# Altium schematic symbol library WR-WTB.SchLib: 242 symbols (part 1 of 5)
Pins are listed as number, name and electrical type; pins without a type are passive.

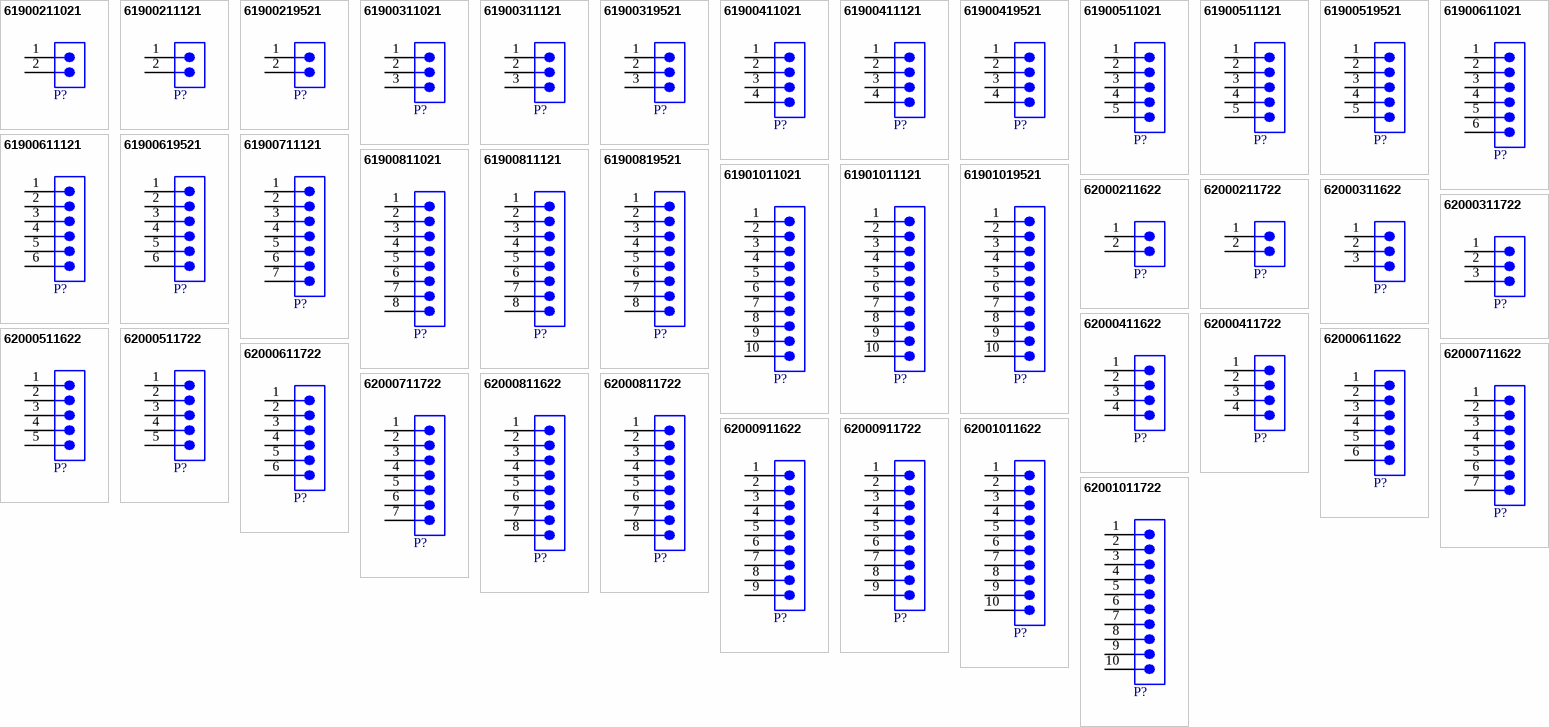
[diagram p0: symbols 61900211021 to 62001011722]

## 61900211021
designator P?  (value not drawn)
WR-WTB THT Male Left Angled Bottom Locking Header, pitch 2.54mm, 2pins; Manufacturer: Wurth Elektronik; Contact Resistance: 20mΩ; Rated Current: 3A; Working Voltage: 250VAC; Withstanding Voltage: 1000VAC; ComponentLink1Description: Website Link; ComponentLink1URL: https://www.we-online.com/redexpert/article/61900211021?ad; ComponentLink2Description: Datasheet Link; ComponentLink2URL: https://www.we-online.com/redexpert/spec/61900211021?ad; Manufacturer Part Number: 61900211021; Category: Wire-to-Board Connectors; Match Code: WR-WTB; Mount: Through Hole; Operating Temperature Max: 105°C; Operating Temperature Min: -40°C; Packaging: Bag; Length: 5.08mm; Width: 12.47mm; Height: 5.8mm; Gender: Male; Number of Pins: 2; Number of Rows: 1; Orientation: Right Angled Bottom Locking; Pitch: 2.54mm
footprint 61900211021
pins: 1, 2

## 61900211121
designator P?  (value not drawn)
WR-WTB THT Male Vertical Locking Header, pitch 2.54mm, 2pins; Manufacturer: Wurth Elektronik; Contact Resistance: 20mΩ; Rated Current: 3A; Working Voltage: 250VAC; Withstanding Voltage: 1000VAC; ComponentLink1Description: Website Link; ComponentLink1URL: https://www.we-online.com/redexpert/article/61900211121?ad; ComponentLink2Description: Datasheet Link; ComponentLink2URL: https://www.we-online.com/redexpert/spec/61900211121?ad; Manufacturer Part Number: 61900211121; Category: Wire-to-Board Connectors; Match Code: WR-WTB; Mount: Through Hole; Operating Temperature Max: 105°C; Operating Temperature Min: -40°C; Packaging: Bag; Length: 5.08mm; Width: 5.8mm; Height: 11.5mm; Gender: Male; Number of Pins: 2; Number of Rows: 1; Orientation: Vertical; Pitch: 2.54mm
footprint 61900211121
pins: 1, 2

## 61900219521
designator P?  (value not drawn)
WR-WTB THT Male Right Angled Top Locking Header, pitch 2.54mm, 2pins; Manufacturer: Wurth Elektronik; Contact Resistance: 20mΩ; Rated Current: 3A; Working Voltage: 250VAC; Withstanding Voltage: 1000VAC; ComponentLink1Description: Website Link; ComponentLink1URL: https://www.we-online.com/redexpert/article/61900219521?ad; ComponentLink2Description: Datasheet Link; ComponentLink2URL: https://www.we-online.com/redexpert/spec/61900219521?ad; Manufacturer Part Number: 61900219521; Category: Wire-to-Board Connectors; Match Code: WR-WTB; Mount: Through Hole; Operating Temperature Max: 105°C; Operating Temperature Min: -40°C; Packaging: Bag; Length: 5.08mm; Width: 12.47mm; Height: 5.8mm; Gender: Male; Number of Pins: 2; Number of Rows: 1; Orientation: Right Angled Top Locking; Pitch: 2.54mm
footprint 61900219521
pins: 1, 2

## 61900311021
designator P?  (value not drawn)
WR-WTB THT Male Left Angled Bottom Locking Header, pitch 2.54mm, 3pins; Manufacturer: Wurth Elektronik; Contact Resistance: 20mΩ; Rated Current: 3A; Working Voltage: 250VAC; Withstanding Voltage: 1000VAC; ComponentLink1Description: Website Link; ComponentLink1URL: https://www.we-online.com/redexpert/article/61900311021?ad; ComponentLink2Description: Datasheet Link; ComponentLink2URL: https://www.we-online.com/redexpert/spec/61900311021?ad; Manufacturer Part Number: 61900311021; Category: Wire-to-Board Connectors; Match Code: WR-WTB; Mount: Through Hole; Operating Temperature Max: 105°C; Operating Temperature Min: -40°C; Packaging: Bag; Length: 7.62mm; Width: 12.47mm; Height: 5.8mm; Gender: Male; Number of Pins: 3; Number of Rows: 1; Orientation: Right Angled Bottom Locking; Pitch: 2.54mm
footprint 61900311021
pins: 1, 2, 3

## 61900311121
designator P?  (value not drawn)
WR-WTB THT Male Vertical Locking Header, pitch 2.54mm, 3pins; Manufacturer: Wurth Elektronik; Contact Resistance: 20mΩ; Rated Current: 3A; Working Voltage: 250VAC; Withstanding Voltage: 1000VAC; ComponentLink1Description: Website Link; ComponentLink1URL: https://www.we-online.com/redexpert/article/61900311121?ad; ComponentLink2Description: Datasheet Link; ComponentLink2URL: https://www.we-online.com/redexpert/spec/61900311121?ad; Manufacturer Part Number: 61900311121; Category: Wire-to-Board Connectors; Match Code: WR-WTB; Mount: Through Hole; Operating Temperature Max: 105°C; Operating Temperature Min: -40°C; Packaging: Bag; Length: 7.62mm; Width: 5.8mm; Height: 11.5mm; Gender: Male; Number of Pins: 3; Number of Rows: 1; Orientation: Vertical; Pitch: 2.54mm
footprint 61900311121
pins: 1, 2, 3

## 61900319521
designator P?  (value not drawn)
WR-WTB THT Male Right Angled Top Locking Header, pitch 2.54mm, 3pins; Manufacturer: Wurth Elektronik; Contact Resistance: 20mΩ; Rated Current: 3A; Working Voltage: 250VAC; Withstanding Voltage: 1000VAC; ComponentLink1Description: Website Link; ComponentLink1URL: https://www.we-online.com/redexpert/article/61900319521?ad; ComponentLink2Description: Datasheet Link; ComponentLink2URL: https://www.we-online.com/redexpert/spec/61900319521?ad; Manufacturer Part Number: 61900319521; Category: Wire-to-Board Connectors; Match Code: WR-WTB; Mount: Through Hole; Operating Temperature Max: 105°C; Operating Temperature Min: -40°C; Packaging: Bag; Length: 7.62mm; Width: 12.47mm; Height: 5.8mm; Gender: Male; Number of Pins: 3; Number of Rows: 1; Orientation: Right Angled Top Locking; Pitch: 2.54mm
footprint 61900319521
pins: 1, 2, 3

## 61900411021
designator P?  (value not drawn)
WR-WTB THT Male Left Angled Bottom Locking Header, pitch 2.54mm, 4pins; Manufacturer: Wurth Elektronik; Contact Resistance: 20mΩ; Rated Current: 3A; Working Voltage: 250VAC; Withstanding Voltage: 1000VAC; ComponentLink1Description: Website Link; ComponentLink1URL: https://www.we-online.com/redexpert/article/61900411021?ad; ComponentLink2Description: Datasheet Link; ComponentLink2URL: https://www.we-online.com/redexpert/spec/61900411021?ad; Manufacturer Part Number: 61900411021; Category: Wire-to-Board Connectors; Match Code: WR-WTB; Mount: Through Hole; Operating Temperature Max: 105°C; Operating Temperature Min: -40°C; Packaging: Bag; Length: 10.16mm; Width: 12.47mm; Height: 5.8mm; Gender: Male; Number of Pins: 4; Number of Rows: 1; Orientation: Right Angled Bottom Locking; Pitch: 2.54mm
footprint 61900411021
pins: 1, 2, 3, 4

## 61900411121
designator P?  (value not drawn)
WR-WTB THT Male Vertical Locking Header, pitch 2.54mm, 4pins; Manufacturer: Wurth Elektronik; Contact Resistance: 20mΩ; Rated Current: 3A; Working Voltage: 250VAC; Withstanding Voltage: 1000VAC; ComponentLink1Description: Website Link; ComponentLink1URL: https://www.we-online.com/redexpert/article/61900411121?ad; ComponentLink2Description: Datasheet Link; ComponentLink2URL: https://www.we-online.com/redexpert/spec/61900411121?ad; Manufacturer Part Number: 61900411121; Category: Wire-to-Board Connectors; Match Code: WR-WTB; Mount: Through Hole; Operating Temperature Max: 105°C; Operating Temperature Min: -40°C; Packaging: Bag; Length: 10.16mm; Width: 5.8mm; Height: 11.5mm; Gender: Male; Number of Pins: 4; Number of Rows: 1; Orientation: Vertical; Pitch: 2.54mm
footprint 61900411121
pins: 1, 2, 3, 4

## 61900419521
designator P?  (value not drawn)
WR-WTB THT Male Right Angled Top Locking Header, pitch 2.54mm, 4pins; Manufacturer: Wurth Elektronik; Contact Resistance: 20mΩ; Rated Current: 3A; Working Voltage: 250VAC; Withstanding Voltage: 1000VAC; ComponentLink1Description: Website Link; ComponentLink1URL: https://www.we-online.com/redexpert/article/61900419521?ad; ComponentLink2Description: Datasheet Link; ComponentLink2URL: https://www.we-online.com/redexpert/spec/61900419521?ad; Manufacturer Part Number: 61900419521; Category: Wire-to-Board Connectors; Match Code: WR-WTB; Mount: Through Hole; Operating Temperature Max: 105°C; Operating Temperature Min: -40°C; Packaging: Bag; Length: 10.16mm; Width: 12.47mm; Height: 5.8mm; Gender: Male; Number of Pins: 4; Number of Rows: 1; Orientation: Right Angled Top Locking; Pitch: 2.54mm
footprint 61900419521
pins: 1, 2, 3, 4

## 61900511021
designator P?  (value not drawn)
WR-WTB THT Male Left Angled Bottom Locking Header, pitch 2.54mm, 5pins; Manufacturer: Wurth Elektronik; Contact Resistance: 20mΩ; Rated Current: 3A; Working Voltage: 250VAC; Withstanding Voltage: 1000VAC; ComponentLink1Description: Website Link; ComponentLink1URL: https://www.we-online.com/redexpert/article/61900511021?ad; ComponentLink2Description: Datasheet Link; ComponentLink2URL: https://www.we-online.com/redexpert/spec/61900511021?ad; Manufacturer Part Number: 61900511021; Category: Wire-to-Board Connectors; Match Code: WR-WTB; Mount: Through Hole; Operating Temperature Max: 105°C; Operating Temperature Min: -40°C; Packaging: Bag; Length: 12.7mm; Width: 12.47mm; Height: 5.8mm; Gender: Male; Number of Pins: 5; Number of Rows: 1; Orientation: Right Angled Bottom Locking; Pitch: 2.54mm
footprint 61900511021
pins: 1, 2, 3, 4, 5

## 61900511121
designator P?  (value not drawn)
WR-WTB THT Male Vertical Locking Header, pitch 2.54mm, 5pins; Manufacturer: Wurth Elektronik; Contact Resistance: 20mΩ; Rated Current: 3A; Working Voltage: 250VAC; Withstanding Voltage: 1000VAC; ComponentLink1Description: Website Link; ComponentLink1URL: https://www.we-online.com/redexpert/article/61900511121?ad; ComponentLink2Description: Datasheet Link; ComponentLink2URL: https://www.we-online.com/redexpert/spec/61900511121?ad; Manufacturer Part Number: 61900511121; Category: Wire-to-Board Connectors; Match Code: WR-WTB; Mount: Through Hole; Operating Temperature Max: 105°C; Operating Temperature Min: -40°C; Packaging: Bag; Length: 12.7mm; Width: 5.8mm; Height: 11.5mm; Gender: Male; Number of Pins: 5; Number of Rows: 1; Orientation: Vertical; Pitch: 2.54mm
footprint 61900511121
pins: 1, 2, 3, 4, 5

## 61900519521
designator P?  (value not drawn)
WR-WTB THT Male Right Angled Top Locking Header, pitch 2.54mm, 5pins; Manufacturer: Wurth Elektronik; Contact Resistance: 20mΩ; Rated Current: 3A; Working Voltage: 250VAC; Withstanding Voltage: 1000VAC; ComponentLink1Description: Website Link; ComponentLink1URL: https://www.we-online.com/redexpert/article/61900519521?ad; ComponentLink2Description: Datasheet Link; ComponentLink2URL: https://www.we-online.com/redexpert/spec/61900519521?ad; Manufacturer Part Number: 61900519521; Category: Wire-to-Board Connectors; Match Code: WR-WTB; Mount: Through Hole; Operating Temperature Max: 105°C; Operating Temperature Min: -40°C; Packaging: Bag; Length: 12.7mm; Width: 12.47mm; Height: 5.8mm; Gender: Male; Number of Pins: 5; Number of Rows: 1; Orientation: Right Angled Top Locking; Pitch: 2.54mm
footprint 61900519521
pins: 1, 2, 3, 4, 5

## 61900611021
designator P?  (value not drawn)
WR-WTB THT Male Left Angled Bottom Locking Header, pitch 2.54mm, 6pins; Manufacturer: Wurth Elektronik; Contact Resistance: 20mΩ; Rated Current: 3A; Working Voltage: 250VAC; Withstanding Voltage: 1000VAC; ComponentLink1Description: Website Link; ComponentLink1URL: https://www.we-online.com/redexpert/article/61900611021?ad; ComponentLink2Description: Datasheet Link; ComponentLink2URL: https://www.we-online.com/redexpert/spec/61900611021?ad; Manufacturer Part Number: 61900611021; Category: Wire-to-Board Connectors; Match Code: WR-WTB; Mount: Through Hole; Operating Temperature Max: 105°C; Operating Temperature Min: -40°C; Packaging: Bag; Length: 15.24mm; Width: 12.47mm; Height: 5.8mm; Gender: Male; Number of Pins: 6; Number of Rows: 1; Orientation: Right Angled Bottom Locking; Pitch: 2.54mm
footprint 61900611021
pins: 1, 2, 3, 4, 5, 6

## 61900611121
designator P?  (value not drawn)
WR-WTB THT Male Vertical Locking Header, pitch 2.54mm, 6pins; Manufacturer: Wurth Elektronik; Contact Resistance: 20mΩ; Rated Current: 3A; Working Voltage: 250VAC; Withstanding Voltage: 1000VAC; ComponentLink1Description: Website Link; ComponentLink1URL: https://www.we-online.com/redexpert/article/61900611121?ad; ComponentLink2Description: Datasheet Link; ComponentLink2URL: https://www.we-online.com/redexpert/spec/61900611121?ad; Manufacturer Part Number: 61900611121; Category: Wire-to-Board Connectors; Match Code: WR-WTB; Mount: Through Hole; Operating Temperature Max: 105°C; Operating Temperature Min: -40°C; Packaging: Bag; Length: 15.24mm; Width: 5.8mm; Height: 11.5mm; Gender: Male; Number of Pins: 6; Number of Rows: 1; Orientation: Vertical; Pitch: 2.54mm
footprint 61900611121
pins: 1, 2, 3, 4, 5, 6

## 61900619521
designator P?  (value not drawn)
WR-WTB THT Male Right Angled Top Locking Header, pitch 2.54mm, 6pins; Manufacturer: Wurth Elektronik; Contact Resistance: 20mΩ; Rated Current: 3A; Working Voltage: 250VAC; Withstanding Voltage: 1000VAC; ComponentLink1Description: Website Link; ComponentLink1URL: https://www.we-online.com/redexpert/article/61900619521?ad; ComponentLink2Description: Datasheet Link; ComponentLink2URL: https://www.we-online.com/redexpert/spec/61900619521?ad; Manufacturer Part Number: 61900619521; Category: Wire-to-Board Connectors; Match Code: WR-WTB; Mount: Through Hole; Operating Temperature Max: 105°C; Operating Temperature Min: -40°C; Packaging: Bag; Length: 15.24mm; Width: 12.47mm; Height: 5.8mm; Gender: Male; Number of Pins: 6; Number of Rows: 1; Orientation: Right Angled Top Locking; Pitch: 2.54mm
footprint 61900619521
pins: 1, 2, 3, 4, 5, 6

## 61900711121
designator P?  (value not drawn)
WR-WTB THT Male Vertical Locking Header, pitch 2.54mm, 7pins; Manufacturer: Wurth Elektronik; Contact Resistance: 20mΩ; Rated Current: 3A; Working Voltage: 250VAC; Withstanding Voltage: 1000VAC; ComponentLink1Description: Website Link; ComponentLink1URL: https://www.we-online.com/redexpert/article/61900711121?ad; ComponentLink2Description: Datasheet Link; ComponentLink2URL: https://www.we-online.com/redexpert/spec/61900711121?ad; Manufacturer Part Number: 61900711121; Category: Wire-to-Board Connectors; Match Code: WR-WTB; Mount: Through Hole; Operating Temperature Max: 105°C; Operating Temperature Min: -40°C; Packaging: Bag; Length: 17.78mm; Width: 5.8mm; Height: 11.5mm; Gender: Male; Number of Pins: 7; Number of Rows: 1; Orientation: Vertical; Pitch: 2.54mm
footprint 61900711121
pins: 1, 2, 3, 4, 5, 6, 7

## 61900811021
designator P?  (value not drawn)
WR-WTB THT Male Left Angled Bottom Locking Header, pitch 2.54mm, 8pins; Manufacturer: Wurth Elektronik; Contact Resistance: 20mΩ; Rated Current: 3A; Working Voltage: 250VAC; Withstanding Voltage: 1000VAC; ComponentLink1Description: Website Link; ComponentLink1URL: https://www.we-online.com/redexpert/article/61900811021?ad; ComponentLink2Description: Datasheet Link; ComponentLink2URL: https://www.we-online.com/redexpert/spec/61900811021?ad; Manufacturer Part Number: 61900811021; Category: Wire-to-Board Connectors; Match Code: WR-WTB; Mount: Through Hole; Operating Temperature Max: 105°C; Operating Temperature Min: -40°C; Packaging: Bag; Length: 20.32mm; Width: 12.47mm; Height: 5.8mm; Gender: Male; Number of Pins: 8; Number of Rows: 1; Orientation: Right Angled Bottom Locking; Pitch: 2.54mm
footprint 61900811021
pins: 1, 2, 3, 4, 5, 6, 7, 8

## 61900811121
designator P?  (value not drawn)
WR-WTB THT Male Vertical Locking Header, pitch 2.54mm, 8pins; Manufacturer: Wurth Elektronik; Contact Resistance: 20mΩ; Rated Current: 3A; Working Voltage: 250VAC; Withstanding Voltage: 1000VAC; ComponentLink1Description: Website Link; ComponentLink1URL: https://www.we-online.com/redexpert/article/61900811121?ad; ComponentLink2Description: Datasheet Link; ComponentLink2URL: https://www.we-online.com/redexpert/spec/61900811121?ad; Manufacturer Part Number: 61900811121; Category: Wire-to-Board Connectors; Match Code: WR-WTB; Mount: Through Hole; Operating Temperature Max: 105°C; Operating Temperature Min: -40°C; Packaging: Bag; Length: 20.32mm; Width: 5.8mm; Height: 11.5mm; Gender: Male; Number of Pins: 8; Number of Rows: 1; Orientation: Vertical; Pitch: 2.54mm
footprint 61900811121
pins: 1, 2, 3, 4, 5, 6, 7, 8

## 61900819521
designator P?  (value not drawn)
WR-WTB THT Male Right Angled Top Locking Header, pitch 2.54mm, 8pins; Manufacturer: Wurth Elektronik; Contact Resistance: 20mΩ; Rated Current: 3A; Working Voltage: 250VAC; Withstanding Voltage: 1000VAC; ComponentLink1Description: Website Link; ComponentLink1URL: https://www.we-online.com/redexpert/article/61900819521?ad; ComponentLink2Description: Datasheet Link; ComponentLink2URL: https://www.we-online.com/redexpert/spec/61900819521?ad; Manufacturer Part Number: 61900819521; Category: Wire-to-Board Connectors; Match Code: WR-WTB; Mount: Through Hole; Operating Temperature Max: 105°C; Operating Temperature Min: -40°C; Packaging: Bag; Length: 20.32mm; Width: 12.47mm; Height: 5.8mm; Gender: Male; Number of Pins: 8; Number of Rows: 1; Orientation: Right Angled Top Locking; Pitch: 2.54mm
footprint 61900819521
pins: 1, 2, 3, 4, 5, 6, 7, 8

## 61901011021
designator P?  (value not drawn)
WR-WTB THT Male Left Angled Bottom Locking Header, pitch 2.54mm, 10pins; Manufacturer: Wurth Elektronik; Contact Resistance: 20mΩ; Rated Current: 3A; Working Voltage: 250VAC; Withstanding Voltage: 1000VAC; ComponentLink1Description: Website Link; ComponentLink1URL: https://www.we-online.com/redexpert/article/61901011021?ad; ComponentLink2Description: Datasheet Link; ComponentLink2URL: https://www.we-online.com/redexpert/spec/61901011021?ad; Manufacturer Part Number: 61901011021; Category: Wire-to-Board Connectors; Match Code: WR-WTB; Mount: Through Hole; Operating Temperature Max: 105°C; Operating Temperature Min: -40°C; Packaging: Bag; Length: 25.4mm; Width: 12.47mm; Height: 5.8mm; Gender: Male; Number of Pins: 10; Number of Rows: 1; Orientation: Right Angled Bottom Locking; Pitch: 2.54mm
footprint 61901011021
pins: 1, 2, 3, 4, 5, 6, 7, 8, 9, 10

## 61901011121
designator P?  (value not drawn)
WR-WTB THT Male Vertical Locking Header, pitch 2.54mm, 10pins; Manufacturer: Wurth Elektronik; Contact Resistance: 20mΩ; Rated Current: 3A; Working Voltage: 250VAC; Withstanding Voltage: 1000VAC; ComponentLink1Description: Website Link; ComponentLink1URL: https://www.we-online.com/redexpert/article/61901011121?ad; ComponentLink2Description: Datasheet Link; ComponentLink2URL: https://www.we-online.com/redexpert/spec/61901011121?ad; Manufacturer Part Number: 61901011121; Category: Wire-to-Board Connectors; Match Code: WR-WTB; Mount: Through Hole; Operating Temperature Max: 105°C; Operating Temperature Min: -40°C; Packaging: Bag; Length: 25.4mm; Width: 5.8mm; Height: 11.5mm; Gender: Male; Number of Pins: 10; Number of Rows: 1; Orientation: Vertical; Pitch: 2.54mm
footprint 61901011121
pins: 1, 2, 3, 4, 5, 6, 7, 8, 9, 10

## 61901019521
designator P?  (value not drawn)
WR-WTB THT Male Right Angled Top Locking Header, pitch 2.54mm, 10pins; Manufacturer: Wurth Elektronik; Contact Resistance: 20mΩ; Rated Current: 3A; Working Voltage: 250VAC; Withstanding Voltage: 1000VAC; ComponentLink1Description: Website Link; ComponentLink1URL: https://www.we-online.com/redexpert/article/61901019521?ad; ComponentLink2Description: Datasheet Link; ComponentLink2URL: https://www.we-online.com/redexpert/spec/61901019521?ad; Manufacturer Part Number: 61901019521; Category: Wire-to-Board Connectors; Match Code: WR-WTB; Mount: Through Hole; Operating Temperature Max: 105°C; Operating Temperature Min: -40°C; Packaging: Bag; Length: 25.4mm; Width: 12.47mm; Height: 5.8mm; Gender: Male; Number of Pins: 10; Number of Rows: 1; Orientation: Right Angled Top Locking; Pitch: 2.54mm
footprint 61901019521
pins: 1, 2, 3, 4, 5, 6, 7, 8, 9, 10

## 62000211622
designator P?  (value not drawn)
WR-WTB Male Vertical Shrouded Header, pitch 2mm, 2pins; Manufacturer: Wurth Elektronik; Contact Resistance: 20mΩ; Rated Current: 2A; Working Voltage: 125VAC; Withstanding Voltage: 800VAC; ComponentLink1Description: Website Link; ComponentLink1URL: https://www.we-online.com/redexpert/article/62000211622?ad; ComponentLink2Description: Datasheet Link; ComponentLink2URL: https://www.we-online.com/redexpert/spec/62000211622?ad; Manufacturer Part Number: 62000211622; Category: Wire-to-Board Connectors; Match Code: WR-WTB; Mount: Through Hole; Operating Temperature Max: 85°C; Operating Temperature Min: -25°C; Packaging: Bag; Length: 6mm; Width: 4.7mm; Height: 6.1mm; Gender: Male; Number of Pins: 2; Number of Rows: 1; Orientation: Vertical; Pitch: 2mm
footprint 62000211622
pins: 1, 2

## 62000211722
designator P?  (value not drawn)
WR-WTB THT Male Horizontal Shrouded Header, pitch 2mm, 2pins; Manufacturer: Wurth Elektronik; Contact Resistance: 20mΩ; Rated Current: 2A; Working Voltage: 125VAC; Withstanding Voltage: 800VAC; ComponentLink1Description: Website Link; ComponentLink1URL: https://www.we-online.com/redexpert/article/62000211722?ad; ComponentLink2Description: Datasheet Link; ComponentLink2URL: https://www.we-online.com/redexpert/spec/62000211722?ad; Manufacturer Part Number: 62000211722; Category: Wire-to-Board Connectors; Match Code: WR-WTB; Mount: Through Hole; Operating Temperature Max: 85°C; Operating Temperature Min: -25°C; Packaging: Bag; Length: 6mm; Width: 7.6mm; Height: 4.5mm; Gender: Male; Number of Pins: 2; Number of Rows: 1; Orientation: Horizontal; Pitch: 2mm
footprint 62000211722
pins: 1, 2

## 62000311622
designator P?  (value not drawn)
WR-WTB Male Vertical Shrouded Header, pitch 2mm, 3pins; Manufacturer: Wurth Elektronik; Contact Resistance: 20mΩ; Rated Current: 2A; Working Voltage: 125VAC; Withstanding Voltage: 800VAC; ComponentLink1Description: Website Link; ComponentLink1URL: https://www.we-online.com/redexpert/article/62000311622?ad; ComponentLink2Description: Datasheet Link; ComponentLink2URL: https://www.we-online.com/redexpert/spec/62000311622?ad; Manufacturer Part Number: 62000311622; Category: Wire-to-Board Connectors; Match Code: WR-WTB; Mount: Through Hole; Operating Temperature Max: 85°C; Operating Temperature Min: -25°C; Packaging: Bag; Length: 8mm; Width: 4.7mm; Height: 6.1mm; Gender: Male; Number of Pins: 3; Number of Rows: 1; Orientation: Vertical; Pitch: 2mm
footprint 62000311622
pins: 1, 2, 3

## 62000311722
designator P?  (value not drawn)
WR-WTB THT Male Horizontal Shrouded Header, pitch 2mm, 3pins; Manufacturer: Wurth Elektronik; Contact Resistance: 20mΩ; Rated Current: 2A; Working Voltage: 125VAC; Withstanding Voltage: 800VAC; ComponentLink1Description: Website Link; ComponentLink1URL: https://www.we-online.com/redexpert/article/62000311722?ad; ComponentLink2Description: Datasheet Link; ComponentLink2URL: https://www.we-online.com/redexpert/spec/62000311722?ad; Manufacturer Part Number: 62000311722; Category: Wire-to-Board Connectors; Match Code: WR-WTB; Mount: Through Hole; Operating Temperature Max: 85°C; Operating Temperature Min: -25°C; Packaging: Bag; Length: 8mm; Width: 7.6mm; Height: 4.5mm; Gender: Male; Number of Pins: 3; Number of Rows: 1; Orientation: Horizontal; Pitch: 2mm
footprint 62000311722
pins: 1, 2, 3

## 62000411622
designator P?  (value not drawn)
WR-WTB Male Vertical Shrouded Header, pitch 2mm, 4pins; Manufacturer: Wurth Elektronik; Contact Resistance: 20mΩ; Rated Current: 2A; Working Voltage: 125VAC; Withstanding Voltage: 800VAC; ComponentLink1Description: Website Link; ComponentLink1URL: https://www.we-online.com/redexpert/article/62000411622?ad; ComponentLink2Description: Datasheet Link; ComponentLink2URL: https://www.we-online.com/redexpert/spec/62000411622?ad; Manufacturer Part Number: 62000411622; Category: Wire-to-Board Connectors; Match Code: WR-WTB; Mount: Through Hole; Operating Temperature Max: 85°C; Operating Temperature Min: -25°C; Packaging: Bag; Length: 10mm; Width: 4.7mm; Height: 6.1mm; Gender: Male; Number of Pins: 4; Number of Rows: 1; Orientation: Vertical; Pitch: 2mm
footprint 62000411622
pins: 1, 2, 3, 4

## 62000411722
designator P?  (value not drawn)
WR-WTB THT Male Horizontal Shrouded Header, pitch 2mm, 4pins; Manufacturer: Wurth Elektronik; Contact Resistance: 20mΩ; Rated Current: 2A; Working Voltage: 125VAC; Withstanding Voltage: 800VAC; ComponentLink1Description: Website Link; ComponentLink1URL: https://www.we-online.com/redexpert/article/62000411722?ad; ComponentLink2Description: Datasheet Link; ComponentLink2URL: https://www.we-online.com/redexpert/spec/62000411722?ad; Manufacturer Part Number: 62000411722; Category: Wire-to-Board Connectors; Match Code: WR-WTB; Mount: Through Hole; Operating Temperature Max: 85°C; Operating Temperature Min: -25°C; Packaging: Bag; Length: 10mm; Width: 7.6mm; Height: 4.5mm; Gender: Male; Number of Pins: 4; Number of Rows: 1; Orientation: Horizontal; Pitch: 2mm
footprint 62000411722
pins: 1, 2, 3, 4

## 62000511622
designator P?  (value not drawn)
WR-WTB Male Vertical Shrouded Header, pitch 2mm, 5pins; Manufacturer: Wurth Elektronik; Contact Resistance: 20mΩ; Rated Current: 2A; Working Voltage: 125VAC; Withstanding Voltage: 800VAC; ComponentLink1Description: Website Link; ComponentLink1URL: https://www.we-online.com/redexpert/article/62000511622?ad; ComponentLink2Description: Datasheet Link; ComponentLink2URL: https://www.we-online.com/redexpert/spec/62000511622?ad; Manufacturer Part Number: 62000511622; Category: Wire-to-Board Connectors; Match Code: WR-WTB; Mount: Through Hole; Operating Temperature Max: 85°C; Operating Temperature Min: -25°C; Packaging: Bag; Length: 12mm; Width: 4.7mm; Height: 6.1mm; Gender: Male; Number of Pins: 5; Number of Rows: 1; Orientation: Vertical; Pitch: 2mm
footprint 62000511622
pins: 1, 2, 3, 4, 5

## 62000511722
designator P?  (value not drawn)
WR-WTB THT Male Horizontal Shrouded Header, pitch 2mm, 5pins; Manufacturer: Wurth Elektronik; Contact Resistance: 20mΩ; Rated Current: 2A; Working Voltage: 125VAC; Withstanding Voltage: 800VAC; ComponentLink1Description: Website Link; ComponentLink1URL: https://www.we-online.com/redexpert/article/62000511722?ad; ComponentLink2Description: Datasheet Link; ComponentLink2URL: https://www.we-online.com/redexpert/spec/62000511722?ad; Manufacturer Part Number: 62000511722; Category: Wire-to-Board Connectors; Match Code: WR-WTB; Mount: Through Hole; Operating Temperature Max: 85°C; Operating Temperature Min: -25°C; Packaging: Bag; Length: 12mm; Width: 7.6mm; Height: 4.5mm; Gender: Male; Number of Pins: 5; Number of Rows: 1; Orientation: Horizontal; Pitch: 2mm
footprint 62000511722
pins: 1, 2, 3, 4, 5

## 62000611622
designator P?  (value not drawn)
WR-WTB Male Vertical Shrouded Header, pitch 2mm, 6pins; Manufacturer: Wurth Elektronik; Contact Resistance: 20mΩ; Rated Current: 2A; Working Voltage: 125VAC; Withstanding Voltage: 800VAC; ComponentLink1Description: Website Link; ComponentLink1URL: https://www.we-online.com/redexpert/article/62000611622?ad; ComponentLink2Description: Datasheet Link; ComponentLink2URL: https://www.we-online.com/redexpert/spec/62000611622?ad; Manufacturer Part Number: 62000611622; Category: Wire-to-Board Connectors; Match Code: WR-WTB; Mount: Through Hole; Operating Temperature Max: 85°C; Operating Temperature Min: -25°C; Packaging: Bag; Length: 14mm; Width: 4.7mm; Height: 6.1mm; Gender: Male; Number of Pins: 6; Number of Rows: 1; Orientation: Vertical; Pitch: 2mm
footprint 62000611622
pins: 1, 2, 3, 4, 5, 6

## 62000611722
designator P?  (value not drawn)
WR-WTB THT Male Horizontal Shrouded Header, pitch 2mm, 6pins; Manufacturer: Wurth Elektronik; Contact Resistance: 20mΩ; Rated Current: 2A; Working Voltage: 125VAC; Withstanding Voltage: 800VAC; ComponentLink1Description: Website Link; ComponentLink1URL: https://www.we-online.com/redexpert/article/62000611722?ad; ComponentLink2Description: Datasheet Link; ComponentLink2URL: https://www.we-online.com/redexpert/spec/62000611722?ad; Manufacturer Part Number: 62000611722; Category: Wire-to-Board Connectors; Match Code: WR-WTB; Mount: Through Hole; Operating Temperature Max: 85°C; Operating Temperature Min: -25°C; Packaging: Bag; Length: 14mm; Width: 7.6mm; Height: 4.5mm; Gender: Male; Number of Pins: 6; Number of Rows: 1; Orientation: Horizontal; Pitch: 2mm
footprint 62000611722
pins: 1, 2, 3, 4, 5, 6

## 62000711622
designator P?  (value not drawn)
WR-WTB Male Vertical Shrouded Header, pitch 2mm, 7pins; Manufacturer: Wurth Elektronik; Contact Resistance: 20mΩ; Rated Current: 2A; Working Voltage: 125VAC; Withstanding Voltage: 800VAC; ComponentLink1Description: Website Link; ComponentLink1URL: https://www.we-online.com/redexpert/article/62000711622?ad; ComponentLink2Description: Datasheet Link; ComponentLink2URL: https://www.we-online.com/redexpert/spec/62000711622?ad; Manufacturer Part Number: 62000711622; Category: Wire-to-Board Connectors; Match Code: WR-WTB; Mount: Through Hole; Operating Temperature Max: 85°C; Operating Temperature Min: -25°C; Packaging: Bag; Length: 16mm; Width: 4.7mm; Height: 6.1mm; Gender: Male; Number of Pins: 7; Number of Rows: 1; Orientation: Vertical; Pitch: 2mm
footprint 62000711622
pins: 1, 2, 3, 4, 5, 6, 7

## 62000711722
designator P?  (value not drawn)
WR-WTB THT Male Horizontal Shrouded Header, pitch 2mm, 7pins; Manufacturer: Wurth Elektronik; Contact Resistance: 20mΩ; Rated Current: 2A; Working Voltage: 125VAC; Withstanding Voltage: 800VAC; ComponentLink1Description: Website Link; ComponentLink1URL: https://www.we-online.com/redexpert/article/62000711722?ad; ComponentLink2Description: Datasheet Link; ComponentLink2URL: https://www.we-online.com/redexpert/spec/62000711722?ad; Manufacturer Part Number: 62000711722; Category: Wire-to-Board Connectors; Match Code: WR-WTB; Mount: Through Hole; Operating Temperature Max: 85°C; Operating Temperature Min: -25°C; Packaging: Bag; Length: 16mm; Width: 7.6mm; Height: 4.5mm; Gender: Male; Number of Pins: 7; Number of Rows: 1; Orientation: Horizontal; Pitch: 2mm
footprint 62000711722
pins: 1, 2, 3, 4, 5, 6, 7

## 62000811622
designator P?  (value not drawn)
WR-WTB Male Vertical Shrouded Header, pitch 2mm, 8pins; Manufacturer: Wurth Elektronik; Contact Resistance: 20mΩ; Rated Current: 2A; Working Voltage: 125VAC; Withstanding Voltage: 800VAC; ComponentLink1Description: Website Link; ComponentLink1URL: https://www.we-online.com/redexpert/article/62000811622?ad; ComponentLink2Description: Datasheet Link; ComponentLink2URL: https://www.we-online.com/redexpert/spec/62000811622?ad; Manufacturer Part Number: 62000811622; Category: Wire-to-Board Connectors; Match Code: WR-WTB; Mount: Through Hole; Operating Temperature Max: 85°C; Operating Temperature Min: -25°C; Packaging: Bag; Length: 18mm; Width: 4.7mm; Height: 6.1mm; Gender: Male; Number of Pins: 8; Number of Rows: 1; Orientation: Vertical; Pitch: 2mm
footprint 62000811622
pins: 1, 2, 3, 4, 5, 6, 7, 8

## 62000811722
designator P?  (value not drawn)
WR-WTB THT Male Horizontal Shrouded Header, pitch 2mm, 8pins; Manufacturer: Wurth Elektronik; Contact Resistance: 20mΩ; Rated Current: 2A; Working Voltage: 125VAC; Withstanding Voltage: 800VAC; ComponentLink1Description: Website Link; ComponentLink1URL: https://www.we-online.com/redexpert/article/62000811722?ad; ComponentLink2Description: Datasheet Link; ComponentLink2URL: https://www.we-online.com/redexpert/spec/62000811722?ad; Manufacturer Part Number: 62000811722; Category: Wire-to-Board Connectors; Match Code: WR-WTB; Mount: Through Hole; Operating Temperature Max: 85°C; Operating Temperature Min: -25°C; Packaging: Bag; Length: 18mm; Width: 7.6mm; Height: 4.5mm; Gender: Male; Number of Pins: 8; Number of Rows: 1; Orientation: Horizontal; Pitch: 2mm
footprint 62000811722
pins: 1, 2, 3, 4, 5, 6, 7, 8

## 62000911622
designator P?  (value not drawn)
WR-WTB Male Vertical Shrouded Header, pitch 2mm, 9pins; Manufacturer: Wurth Elektronik; Contact Resistance: 20mΩ; Rated Current: 2A; Working Voltage: 125VAC; Withstanding Voltage: 800VAC; ComponentLink1Description: Website Link; ComponentLink1URL: https://www.we-online.com/redexpert/article/62000911622?ad; ComponentLink2Description: Datasheet Link; ComponentLink2URL: https://www.we-online.com/redexpert/spec/62000911622?ad; Manufacturer Part Number: 62000911622; Category: Wire-to-Board Connectors; Match Code: WR-WTB; Mount: Through Hole; Operating Temperature Max: 85°C; Operating Temperature Min: -25°C; Packaging: Bag; Length: 20mm; Width: 4.7mm; Height: 6.1mm; Gender: Male; Number of Pins: 9; Number of Rows: 1; Orientation: Vertical; Pitch: 2mm
footprint 62000911622
pins: 1, 2, 3, 4, 5, 6, 7, 8, 9

## 62000911722
designator P?  (value not drawn)
WR-WTB THT Male Horizontal Shrouded Header, pitch 2mm, 9pins; Manufacturer: Wurth Elektronik; Contact Resistance: 20mΩ; Rated Current: 2A; Working Voltage: 125VAC; Withstanding Voltage: 800VAC; ComponentLink1Description: Website Link; ComponentLink1URL: https://www.we-online.com/redexpert/article/62000911722?ad; ComponentLink2Description: Datasheet Link; ComponentLink2URL: https://www.we-online.com/redexpert/spec/62000911722?ad; Manufacturer Part Number: 62000911722; Category: Wire-to-Board Connectors; Match Code: WR-WTB; Mount: Through Hole; Operating Temperature Max: 85°C; Operating Temperature Min: -25°C; Packaging: Bag; Length: 20mm; Width: 7.6mm; Height: 4.5mm; Gender: Male; Number of Pins: 9; Number of Rows: 1; Orientation: Horizontal; Pitch: 2mm
footprint 62000911722
pins: 1, 2, 3, 4, 5, 6, 7, 8, 9

## 62001011622
designator P?  (value not drawn)
WR-WTB Male Vertical Shrouded Header, pitch 2mm, 10pins; Manufacturer: Wurth Elektronik; Contact Resistance: 20mΩ; Rated Current: 2A; Working Voltage: 125VAC; Withstanding Voltage: 800VAC; ComponentLink1Description: Website Link; ComponentLink1URL: https://www.we-online.com/redexpert/article/62001011622?ad; ComponentLink2Description: Datasheet Link; ComponentLink2URL: https://www.we-online.com/redexpert/spec/62001011622?ad; Manufacturer Part Number: 62001011622; Category: Wire-to-Board Connectors; Match Code: WR-WTB; Mount: Through Hole; Operating Temperature Max: 85°C; Operating Temperature Min: -25°C; Packaging: Bag; Length: 22mm; Width: 4.7mm; Height: 6.1mm; Gender: Male; Number of Pins: 10; Number of Rows: 1; Orientation: Vertical; Pitch: 2mm
footprint 62001011622
pins: 1, 2, 3, 4, 5, 6, 7, 8, 9, 10

## 62001011722
designator P?  (value not drawn)
WR-WTB THT Male Horizontal Shrouded Header, pitch 2mm, 10pins; Manufacturer: Wurth Elektronik; Contact Resistance: 20mΩ; Rated Current: 2A; Working Voltage: 125VAC; Withstanding Voltage: 800VAC; ComponentLink1Description: Website Link; ComponentLink1URL: https://www.we-online.com/redexpert/article/62001011722?ad; ComponentLink2Description: Datasheet Link; ComponentLink2URL: https://www.we-online.com/redexpert/spec/62001011722?ad; Manufacturer Part Number: 62001011722; Category: Wire-to-Board Connectors; Match Code: WR-WTB; Mount: Through Hole; Operating Temperature Max: 85°C; Operating Temperature Min: -25°C; Packaging: Bag; Length: 22mm; Width: 7.6mm; Height: 4.5mm; Gender: Male; Number of Pins: 10; Number of Rows: 1; Orientation: Horizontal; Pitch: 2mm
footprint 62001011722
pins: 1, 2, 3, 4, 5, 6, 7, 8, 9, 10

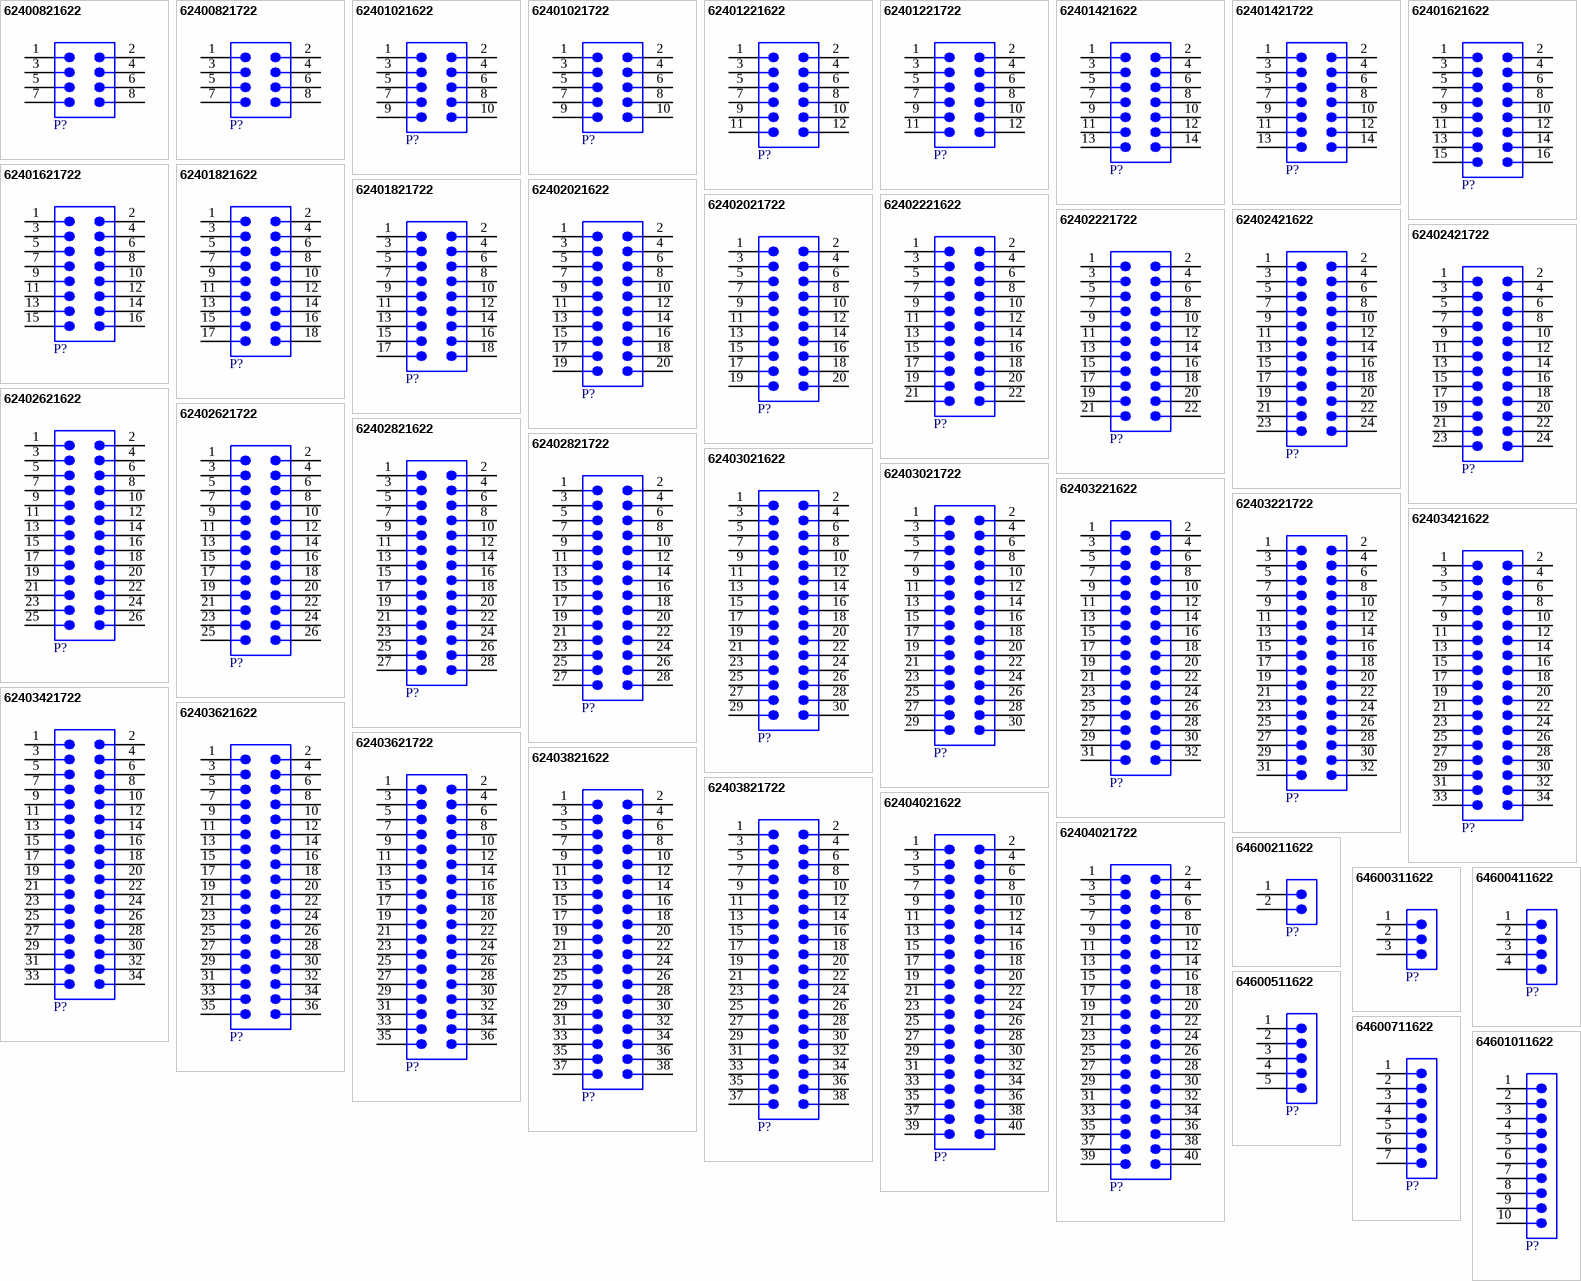
[diagram p1: symbols 62400821622 to 64601011622]

## 62400821622
designator P?  (value not drawn)
WR-WTB THT Male Vertical Shrouded Header with positive locking, Dual Row, pitch 2mm, 8pins; Manufacturer: Wurth Elektronik; Contact Resistance: 20mΩ; Rated Current: 3A; Working Voltage: 250VAC; Withstanding Voltage: 1000VAC; ComponentLink1Description: Website Link; ComponentLink1URL: https://www.we-online.com/redexpert/article/62400821622?ad; ComponentLink2Description: Datasheet Link; ComponentLink2URL: https://www.we-online.com/redexpert/spec/62400821622?ad; Manufacturer Part Number: 62400821622; Category: Wire-to-Board Connectors; Match Code: WR-WTB; Mount: Through Hole; Operating Temperature Max: 85°C; Operating Temperature Min: -25°C; Packaging: Tube; Length: 11.4mm; Width: 11.5mm; Height: 11.6mm; Gender: Male; Number of Pins: 8; Number of Rows: 2; Orientation: Vertical; Pitch: 2mm
footprint 62400821622
pins: 1, 2, 3, 4, 5, 6, 7, 8

## 62400821722
designator P?  (value not drawn)
WR-WTB THT Male Horizontal Shrouded Header with positive locking, Dual Row, pitch 2mm, 8pins; Manufacturer: Wurth Elektronik; Contact Resistance: 20mΩ; Rated Current: 3A; Working Voltage: 250VAC; Withstanding Voltage: 1000VAC; ComponentLink1Description: Website Link; ComponentLink1URL: https://www.we-online.com/redexpert/article/62400821722?ad; ComponentLink2Description: Datasheet Link; ComponentLink2URL: https://www.we-online.com/redexpert/spec/62400821722?ad; Manufacturer Part Number: 62400821722; Category: Wire-to-Board Connectors; Match Code: WR-WTB; Mount: Through Hole; Operating Temperature Max: 85°C; Operating Temperature Min: -25°C; Packaging: Tube; Length: 11.4mm; Width: 14.5mm; Height: 11.7mm; Gender: Male; Number of Pins: 8; Number of Rows: 2; Orientation: Horizontal; Pitch: 2mm
footprint 62400821722
pins: 1, 2, 3, 4, 5, 6, 7, 8

## 62401021622
designator P?  (value not drawn)
WR-WTB THT Male Vertical Shrouded Header with positive locking, Dual Row, pitch 2mm, 10pins; Manufacturer: Wurth Elektronik; Contact Resistance: 20mΩ; Rated Current: 3A; Working Voltage: 250VAC; Withstanding Voltage: 1000VAC; ComponentLink1Description: Website Link; ComponentLink1URL: https://www.we-online.com/redexpert/article/62401021622?ad; ComponentLink2Description: Datasheet Link; ComponentLink2URL: https://www.we-online.com/redexpert/spec/62401021622?ad; Manufacturer Part Number: 62401021622; Category: Wire-to-Board Connectors; Match Code: WR-WTB; Mount: Through Hole; Operating Temperature Max: 85°C; Operating Temperature Min: -25°C; Packaging: Tube; Length: 13.4mm; Width: 11.5mm; Height: 11.6mm; Gender: Male; Number of Pins: 10; Number of Rows: 2; Orientation: Vertical; Pitch: 2mm
footprint 62401021622
pins: 1, 2, 3, 4, 5, 6, 7, 8, 9, 10

## 62401021722
designator P?  (value not drawn)
WR-WTB THT Male Horizontal Shrouded Header with positive locking, Dual Row, pitch 2mm, 10pins; Manufacturer: Wurth Elektronik; Contact Resistance: 20mΩ; Rated Current: 3A; Working Voltage: 250VAC; Withstanding Voltage: 1000VAC; ComponentLink1Description: Website Link; ComponentLink1URL: https://www.we-online.com/redexpert/article/62401021722?ad; ComponentLink2Description: Datasheet Link; ComponentLink2URL: https://www.we-online.com/redexpert/spec/62401021722?ad; Manufacturer Part Number: 62401021722; Category: Wire-to-Board Connectors; Match Code: WR-WTB; Mount: Through Hole; Operating Temperature Max: 85°C; Operating Temperature Min: -25°C; Packaging: Tube; Length: 13.4mm; Width: 14.5mm; Height: 11.7mm; Gender: Male; Number of Pins: 10; Number of Rows: 2; Orientation: Horizontal; Pitch: 2mm
footprint 62401021722
pins: 1, 2, 3, 4, 5, 6, 7, 8, 9, 10

## 62401221622
designator P?  (value not drawn)
WR-WTB THT Male Vertical Shrouded Header with positive locking, Dual Row, pitch 2mm, 12pins; Manufacturer: Wurth Elektronik; Contact Resistance: 20mΩ; Rated Current: 3A; Working Voltage: 250VAC; Withstanding Voltage: 1000VAC; ComponentLink1Description: Website Link; ComponentLink1URL: https://www.we-online.com/redexpert/article/62401221622?ad; ComponentLink2Description: Datasheet Link; ComponentLink2URL: https://www.we-online.com/redexpert/spec/62401221622?ad; Manufacturer Part Number: 62401221622; Category: Wire-to-Board Connectors; Match Code: WR-WTB; Mount: Through Hole; Operating Temperature Max: 85°C; Operating Temperature Min: -25°C; Packaging: Tube; Length: 15.4mm; Width: 11.5mm; Height: 11.6mm; Gender: Male; Number of Pins: 12; Number of Rows: 2; Orientation: Vertical; Pitch: 2mm
footprint 62401221622
pins: 1, 2, 3, 4, 5, 6, 7, 8, 9, 10, 11, 12

## 62401221722
designator P?  (value not drawn)
WR-WTB THT Male Horizontal Shrouded Header with positive locking, Dual Row, pitch 2mm, 12pins; Manufacturer: Wurth Elektronik; Contact Resistance: 20mΩ; Rated Current: 3A; Working Voltage: 250VAC; Withstanding Voltage: 1000VAC; ComponentLink1Description: Website Link; ComponentLink1URL: https://www.we-online.com/redexpert/article/62401221722?ad; ComponentLink2Description: Datasheet Link; ComponentLink2URL: https://www.we-online.com/redexpert/spec/62401221722?ad; Manufacturer Part Number: 62401221722; Category: Wire-to-Board Connectors; Match Code: WR-WTB; Mount: Through Hole; Operating Temperature Max: 85°C; Operating Temperature Min: -25°C; Packaging: Tube; Length: 15.4mm; Width: 14.5mm; Height: 11.7mm; Gender: Male; Number of Pins: 12; Number of Rows: 2; Orientation: Horizontal; Pitch: 2mm
footprint 62401221722
pins: 1, 2, 3, 4, 5, 6, 7, 8, 9, 10, 11, 12

## 62401421622
designator P?  (value not drawn)
WR-WTB THT Male Vertical Shrouded Header with positive locking, Dual Row, pitch 2mm, 14pins; Manufacturer: Wurth Elektronik; Contact Resistance: 20mΩ; Rated Current: 3A; Working Voltage: 250VAC; Withstanding Voltage: 1000VAC; ComponentLink1Description: Website Link; ComponentLink1URL: https://www.we-online.com/redexpert/article/62401421622?ad; ComponentLink2Description: Datasheet Link; ComponentLink2URL: https://www.we-online.com/redexpert/spec/62401421622?ad; Manufacturer Part Number: 62401421622; Category: Wire-to-Board Connectors; Match Code: WR-WTB; Mount: Through Hole; Operating Temperature Max: 85°C; Operating Temperature Min: -25°C; Packaging: Tube; Length: 17.4mm; Width: 11.5mm; Height: 11.6mm; Gender: Male; Number of Pins: 14; Number of Rows: 2; Orientation: Vertical; Pitch: 2mm
footprint 62401421622
pins: 1, 2, 3, 4, 5, 6, 7, 8, 9, 10, 11, 12, 13, 14

## 62401421722
designator P?  (value not drawn)
WR-WTB THT Male Horizontal Shrouded Header with positive locking, Dual Row, pitch 2mm, 14pins; Manufacturer: Wurth Elektronik; Contact Resistance: 20mΩ; Rated Current: 3A; Working Voltage: 250VAC; Withstanding Voltage: 1000VAC; ComponentLink1Description: Website Link; ComponentLink1URL: https://www.we-online.com/redexpert/article/62401421722?ad; ComponentLink2Description: Datasheet Link; ComponentLink2URL: https://www.we-online.com/redexpert/spec/62401421722?ad; Manufacturer Part Number: 62401421722; Category: Wire-to-Board Connectors; Match Code: WR-WTB; Mount: Through Hole; Operating Temperature Max: 85°C; Operating Temperature Min: -25°C; Packaging: Tube; Length: 17.4mm; Width: 14.5mm; Height: 11.7mm; Gender: Male; Number of Pins: 14; Number of Rows: 2; Orientation: Horizontal; Pitch: 2mm
footprint 62401421722
pins: 1, 2, 3, 4, 5, 6, 7, 8, 9, 10, 11, 12, 13, 14

## 62401621622
designator P?  (value not drawn)
WR-WTB THT Male Vertical Shrouded Header with positive locking, Dual Row, pitch 2mm, 16pins; Manufacturer: Wurth Elektronik; Contact Resistance: 20mΩ; Rated Current: 3A; Working Voltage: 250VAC; Withstanding Voltage: 1000VAC; ComponentLink1Description: Website Link; ComponentLink1URL: https://www.we-online.com/redexpert/article/62401621622?ad; ComponentLink2Description: Datasheet Link; ComponentLink2URL: https://www.we-online.com/redexpert/spec/62401621622?ad; Manufacturer Part Number: 62401621622; Category: Wire-to-Board Connectors; Match Code: WR-WTB; Mount: Through Hole; Operating Temperature Max: 85°C; Operating Temperature Min: -25°C; Packaging: Tube; Length: 19.4mm; Width: 11.5mm; Height: 11.6mm; Gender: Male; Number of Pins: 16; Number of Rows: 2; Orientation: Vertical; Pitch: 2mm
footprint 62401621622
pins: 1, 2, 3, 4, 5, 6, 7, 8, 9, 10, 11, 12, 13, 14, 15, 16

## 62401621722
designator P?  (value not drawn)
WR-WTB THT Male Horizontal Shrouded Header with positive locking, Dual Row, pitch 2mm, 16pins; Manufacturer: Wurth Elektronik; Contact Resistance: 20mΩ; Rated Current: 3A; Working Voltage: 250VAC; Withstanding Voltage: 1000VAC; ComponentLink1Description: Website Link; ComponentLink1URL: https://www.we-online.com/redexpert/article/62401621722?ad; ComponentLink2Description: Datasheet Link; ComponentLink2URL: https://www.we-online.com/redexpert/spec/62401621722?ad; Manufacturer Part Number: 62401621722; Category: Wire-to-Board Connectors; Match Code: WR-WTB; Mount: Through Hole; Operating Temperature Max: 85°C; Operating Temperature Min: -25°C; Packaging: Tube; Length: 19.4mm; Width: 14.5mm; Height: 11.7mm; Gender: Male; Number of Pins: 16; Number of Rows: 2; Orientation: Horizontal; Pitch: 2mm
footprint 62401621722
pins: 1, 2, 3, 4, 5, 6, 7, 8, 9, 10, 11, 12, 13, 14, 15, 16

## 62401821622
designator P?  (value not drawn)
WR-WTB THT Male Vertical Shrouded Header with positive locking, Dual Row, pitch 2mm, 18pins; Manufacturer: Wurth Elektronik; Contact Resistance: 20mΩ; Rated Current: 3A; Working Voltage: 250VAC; Withstanding Voltage: 1000VAC; ComponentLink1Description: Website Link; ComponentLink1URL: https://www.we-online.com/redexpert/article/62401821622?ad; ComponentLink2Description: Datasheet Link; ComponentLink2URL: https://www.we-online.com/redexpert/spec/62401821622?ad; Manufacturer Part Number: 62401821622; Category: Wire-to-Board Connectors; Match Code: WR-WTB; Mount: Through Hole; Operating Temperature Max: 85°C; Operating Temperature Min: -25°C; Packaging: Tube; Length: 21.4mm; Width: 11.5mm; Height: 11.6mm; Gender: Male; Number of Pins: 18; Number of Rows: 2; Orientation: Vertical; Pitch: 2mm
footprint 62401821622
pins: 1, 2, 3, 4, 5, 6, 7, 8, 9, 10, 11, 12, 13, 14, 15, 16, 17, 18

## 62401821722
designator P?  (value not drawn)
WR-WTB THT Male Horizontal Shrouded Header with positive locking, Dual Row, pitch 2mm, 18pins; Manufacturer: Wurth Elektronik; Contact Resistance: 20mΩ; Rated Current: 3A; Working Voltage: 250VAC; Withstanding Voltage: 1000VAC; ComponentLink1Description: Website Link; ComponentLink1URL: https://www.we-online.com/redexpert/article/62401821722?ad; ComponentLink2Description: Datasheet Link; ComponentLink2URL: https://www.we-online.com/redexpert/spec/62401821722?ad; Manufacturer Part Number: 62401821722; Category: Wire-to-Board Connectors; Match Code: WR-WTB; Mount: Through Hole; Operating Temperature Max: 85°C; Operating Temperature Min: -25°C; Packaging: Tube; Length: 21.4mm; Width: 14.5mm; Height: 11.7mm; Gender: Male; Number of Pins: 18; Number of Rows: 2; Orientation: Horizontal; Pitch: 2mm
footprint 62401821722
pins: 1, 2, 3, 4, 5, 6, 7, 8, 9, 10, 11, 12, 13, 14, 15, 16, 17, 18

## 62402021622
designator P?  (value not drawn)
WR-WTB THT Male Vertical Shrouded Header with positive locking, Dual Row, pitch 2mm, 20pins; Manufacturer: Wurth Elektronik; Contact Resistance: 20mΩ; Rated Current: 3A; Working Voltage: 250VAC; Withstanding Voltage: 1000VAC; ComponentLink1Description: Website Link; ComponentLink1URL: https://www.we-online.com/redexpert/article/62402021622?ad; ComponentLink2Description: Datasheet Link; ComponentLink2URL: https://www.we-online.com/redexpert/spec/62402021622?ad; Manufacturer Part Number: 62402021622; Category: Wire-to-Board Connectors; Match Code: WR-WTB; Mount: Through Hole; Operating Temperature Max: 85°C; Operating Temperature Min: -25°C; Packaging: Tube; Length: 23.4mm; Width: 11.5mm; Height: 11.6mm; Gender: Male; Number of Pins: 20; Number of Rows: 2; Orientation: Vertical; Pitch: 2mm
footprint 62402021622
pins: 1, 2, 3, 4, 5, 6, 7, 8, 9, 10, 11, 12, 13, 14, 15, 16, 17, 18, 19, 20

## 62402021722
designator P?  (value not drawn)
WR-WTB THT Male Horizontal Shrouded Header with positive locking, Dual Row, pitch 2mm, 20pins; Manufacturer: Wurth Elektronik; Contact Resistance: 20mΩ; Rated Current: 3A; Working Voltage: 250VAC; Withstanding Voltage: 1000VAC; ComponentLink1Description: Website Link; ComponentLink1URL: https://www.we-online.com/redexpert/article/62402021722?ad; ComponentLink2Description: Datasheet Link; ComponentLink2URL: https://www.we-online.com/redexpert/spec/62402021722?ad; Manufacturer Part Number: 62402021722; Category: Wire-to-Board Connectors; Match Code: WR-WTB; Mount: Through Hole; Operating Temperature Max: 85°C; Operating Temperature Min: -25°C; Packaging: Tube; Length: 23.4mm; Width: 14.5mm; Height: 11.7mm; Gender: Male; Number of Pins: 20; Number of Rows: 2; Orientation: Horizontal; Pitch: 2mm
footprint 62402021722
pins: 1, 2, 3, 4, 5, 6, 7, 8, 9, 10, 11, 12, 13, 14, 15, 16, 17, 18, 19, 20

## 62402221622
designator P?  (value not drawn)
WR-WTB THT Male Vertical Shrouded Header with positive locking, Dual Row, pitch 2mm, 22pins; Manufacturer: Wurth Elektronik; Contact Resistance: 20mΩ; Rated Current: 3A; Working Voltage: 250VAC; Withstanding Voltage: 1000VAC; ComponentLink1Description: Website Link; ComponentLink1URL: https://www.we-online.com/redexpert/article/62402221622?ad; ComponentLink2Description: Datasheet Link; ComponentLink2URL: https://www.we-online.com/redexpert/spec/62402221622?ad; Manufacturer Part Number: 62402221622; Category: Wire-to-Board Connectors; Match Code: WR-WTB; Mount: Through Hole; Operating Temperature Max: 85°C; Operating Temperature Min: -25°C; Packaging: Tube; Length: 25.4mm; Width: 11.5mm; Height: 11.6mm; Gender: Male; Number of Pins: 22; Number of Rows: 2; Orientation: Vertical; Pitch: 2mm
footprint 62402221622
pins: 1, 2, 3, 4, 5, 6, 7, 8, 9, 10, 11, 12, 13, 14, 15, 16, 17, 18, 19, 20, 21, 22

## 62402221722
designator P?  (value not drawn)
WR-WTB THT Male Horizontal Shrouded Header with positive locking, Dual Row, pitch 2mm, 22pins; Manufacturer: Wurth Elektronik; Contact Resistance: 20mΩ; Rated Current: 3A; Working Voltage: 250VAC; Withstanding Voltage: 1000VAC; ComponentLink1Description: Website Link; ComponentLink1URL: https://www.we-online.com/redexpert/article/62402221722?ad; ComponentLink2Description: Datasheet Link; ComponentLink2URL: https://www.we-online.com/redexpert/spec/62402221722?ad; Manufacturer Part Number: 62402221722; Category: Wire-to-Board Connectors; Match Code: WR-WTB; Mount: Through Hole; Operating Temperature Max: 85°C; Operating Temperature Min: -25°C; Packaging: Tube; Length: 25.4mm; Width: 14.5mm; Height: 11.7mm; Gender: Male; Number of Pins: 22; Number of Rows: 2; Orientation: Horizontal; Pitch: 2mm
footprint 62402221722
pins: 1, 2, 3, 4, 5, 6, 7, 8, 9, 10, 11, 12, 13, 14, 15, 16, 17, 18, 19, 20, 21, 22